# EAGLE library part LMZ22005TZ (library cartesian_main)
Power Module, 20v, 5a, 7to-Pmod
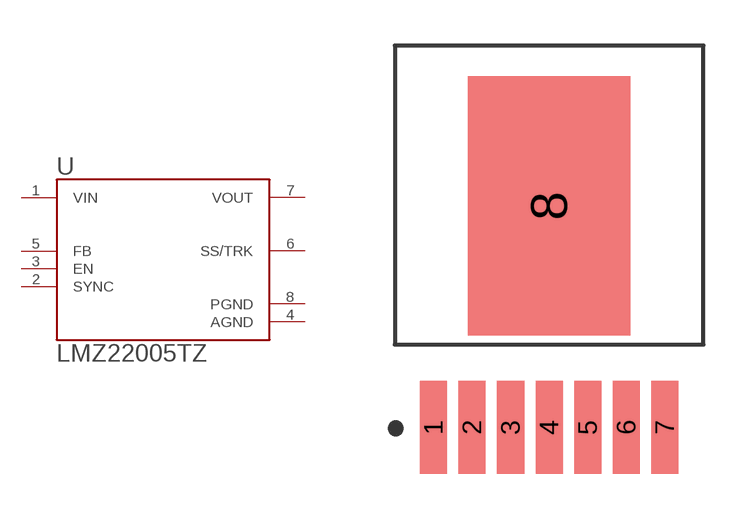
[diagram p2: symbol with the pads of DPAK127P1377X467-8N; footprint DPAK127P1377X467-8N]

Designator prefix U

## LMZ22005TZ (AVAILABILITY: Unavailable; DESCRIPTION: Power Module, 20v, 5a, 7to-Pmod; MF: Texas Instruments; MP: LMZ22005TZ; PACKAGE: TO-7 Texas Instruments; PRICE: None)  [DPAK127P1377X467-8N]
1  VIN  in
2  SYNC  in
3  EN  in
4  AGND  pwr
5  FB  in
6  SS/TRK  pas
7  VOUT  out
8  PGND  pwr

## Footprint DPAK127P1377X467-8N (pad centres in mm)
smd 0.89 x 3.06: 1 -3.81,-3.652; 2 -2.54,-3.652; 3 -1.27,-3.652; 4 0,-3.652; 5 1.27,-3.652; 6 2.54,-3.652; 7 3.81,-3.652
smd 5.35 x 8.54: 8 0,3.652